# Altium schematic symbol library Schlib1.SchLib: 1 symbol
Pins are listed as number, name and electrical type; pins without a type are passive.

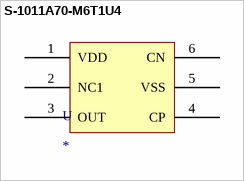
[diagram p0: symbol S-1011A70-M6T1U4]

## S-1011A70-M6T1U4
designator U
pins: 1 VDD, 2 NC1, 3 OUT, 4 CP, 5 VSS, 6 CN